# EAGLE library part DF40C-30 (library con-Hirose)
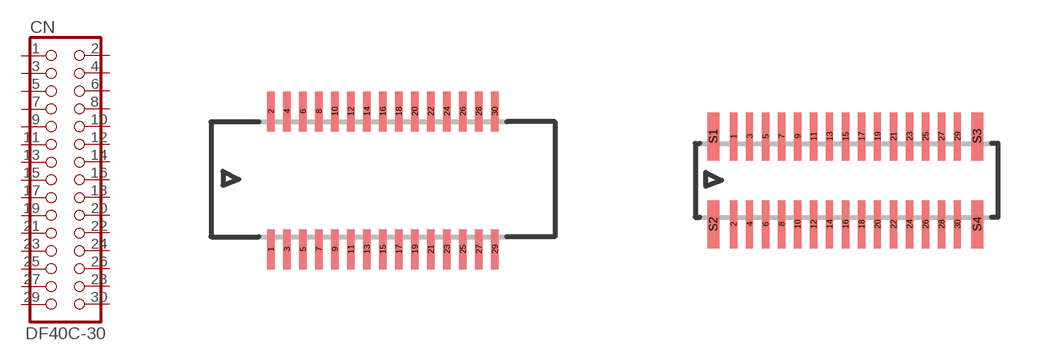
[diagram p15: symbol with the pads of DF40C-30DS; footprints DF40C-30DS, DF40C-30DP]

Designator prefix CN

## DF40C-30DS  [DF40C-30DS]
1  1  pas
2  2  pas
3  3  pas
4  4  pas
5  5  pas
6  6  pas
7  7  pas
8  8  pas
9  9  pas
10  10  pas
11  11  pas
12  12  pas
13  13  pas
14  14  pas
15  15  pas
16  16  pas
17  17  pas
18  18  pas
19  19  pas
20  20  pas
21  21  pas
22  22  pas
23  23  pas
24  24  pas
25  25  pas
26  26  pas
27  27  pas
28  28  pas
29  29  pas
30  30  pas

## DF40C-30DP  [DF40C-30DP]
Pads as for DF40C-30DS

## Footprint DF40C-30DS (pad centres in mm)
smd 0.18 x 1: 1 -2.8,-1.75; 2 -2.8,1.7; 3 -2.4,-1.75; 4 -2.4,1.7; 5 -2,-1.75; 6 -2,1.7; 7 -1.6,-1.75; 8 -1.6,1.7; 9 -1.2,-1.75; 10 -1.2,1.7; 11 -0.8,-1.75; 12 -0.8,1.7; 13 -0.4,-1.75; 14 -0.4,1.7; 15 0,-1.75; 16 0,1.7; 17 0.4,-1.75; 18 0.4,1.7; 19 0.8,-1.75; 20 0.8,1.7; 21 1.2,-1.75; 22 1.2,1.7; 23 1.6,-1.75; 24 1.6,1.7; 25 2,-1.75; 26 2,1.7; 27 2.4,-1.75; 28 2.4,1.7; 29 2.8,-1.75; 30 2.8,1.7

## Footprint DF40C-30DP (pad centres in mm)
smd 0.18 x 1.2: 1 -2.8,1.1; 2 -2.8,-1.1; 3 -2.4,1.1; 4 -2.4,-1.1; 5 -2,1.1; 6 -2,-1.1; 7 -1.6,1.1; 8 -1.6,-1.1; 9 -1.2,1.1; 10 -1.2,-1.1; 11 -0.8,1.1; 12 -0.8,-1.1; 13 -0.4,1.1; 14 -0.4,-1.1; 15 0,1.1; 16 0,-1.1; 17 0.4,1.1; 18 0.4,-1.1; 19 0.8,1.1; 20 0.8,-1.1; 21 1.2,1.1; 22 1.2,-1.1; 23 1.6,1.1; 24 1.6,-1.1; 25 2,1.1; 26 2,-1.1; 27 2.4,1.1; 28 2.4,-1.1; 29 2.8,1.1; 30 2.8,-1.1
smd 0.3 x 1.2: S1 -3.3,1.1; S2 -3.3,-1.1; S3 3.3,1.1; S4 3.3,-1.1